# EAGLE library part JUMPER-2X6 (library Arlinked)
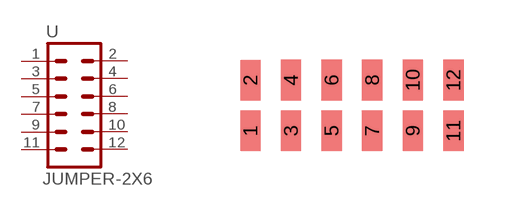
[diagram p2: symbol with the pads of JUMPER-2X06-SMD; footprint JUMPER-2X06-SMD]

Designator prefix -

## JUMPER-2X6  [JUMPER-2X06-SMD]
1  1  pas
2  2  pas
3  3  pas
4  4  pas
5  5  pas
6  6  pas
7  7  pas
8  8  pas
9  9  pas
10  10  pas
11  11  pas
12  12  pas

## Footprint JUMPER-2X06-SMD (pad centres in mm)
smd 0.508 x 1.016: 1 -2.54,-0.635; 2 -2.54,0.634; 3 -1.524,-0.635; 4 -1.524,0.635; 5 -0.508,-0.635; 6 -0.508,0.635; 7 0.508,-0.635; 8 0.508,0.635; 9 1.524,-0.635; 10 1.524,0.635; 11 2.54,-0.635; 12 2.54,0.635